# Altium schematic symbol library AON7544.SchLib: 1 symbol
Pins are listed as number, name and electrical type; pins without a type are passive.

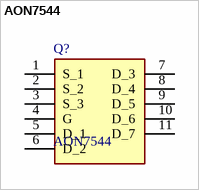
[diagram p0: symbol AON7544]

## AON7544
designator Q?
MOSFET N Trench 30V 30A(Tc) 2.2V @ 250uA 5 m @ 20A,10V DFN-8_3x3 EP RoHS; Manufacturer_Name: Alpha & Omega Semiconductors; Geometry.Height: 0.9mm; Manufacturer_Part_Number: AON7544; Mouser Part Number: *; Mouser Price/Stock: *; Arrow Part Number: *; Arrow Price/Stock: *; Mouser Testing Part Number: *; Mouser Testing Price/Stock: *; Datasheet Link: https://datasheet.lcsc.com/lcsc/1912111437_Alpha---Omega-Semicon-AON7544_C315567.pdf
footprint AON7544
pins: 1 S_1, 2 S_2, 3 S_3, 4 G, 5 D_1, 6 D_2, 7 D_3, 8 D_4, 9 D_5, 10 D_6, 11 D_7